# Altium footprint library Heat Sink.PcbLib: 41 footprints (part 2 of 3)
Each footprint in its own frame and in the unit in brackets; x right, y up, seen from the top. Pads: shape width x height; smd on the part's side, far side on the other; paste and mask are expansions set on the pad; w line width, h text height; cw(c..) or ccw(c..) is an arc to the next point about the centre after c.
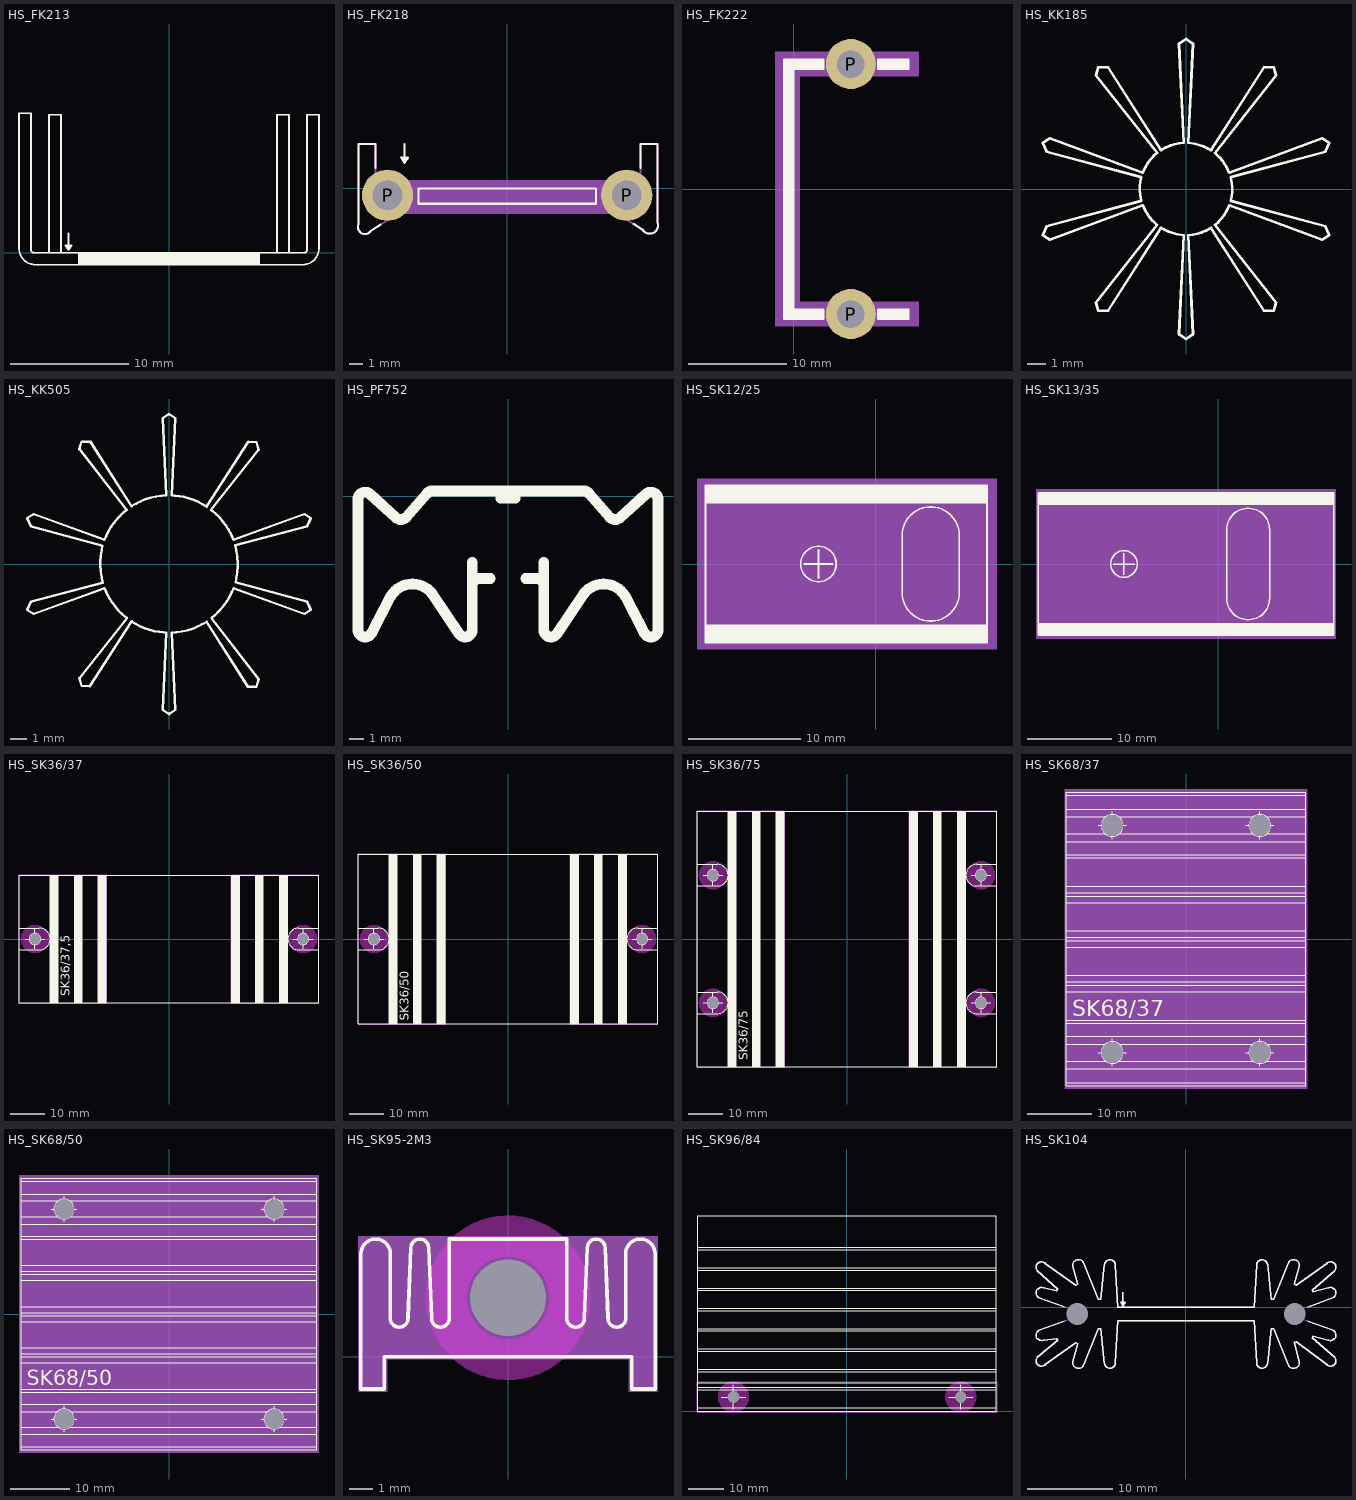
[diagram p1: the footprints below, top view; thin cyan lines are the x and y axes]

## HS_FK213 [mil]
Top Overlay:
  rectangle: -300,-40 300,0
  region: -345,25 -325,25 -335,10
  lines w6: -335,65 -335,25 ; -400,0 -360,0 ; -400,0 -450,0 cw(c-450,10) -460,10 -460,465 -500,465 -500,15 ccw(c-445,15) -445,-40 -300,-40 ; -400,0 -400,460 -360,460 -360,0 ; -360,0 -300,0 ; -335,25 -345,25 -335,10 -325,25 -335,25 ; -300,-40 300,-40 ; -300,-40 -300,0 ; -300,0 300,0 ; 300,-40 445,-40 ccw(c445,15) 500,15 500,460 460,460 460,10 cw(c450,10) 450,0 400,0 ; 300,-40 300,0 ; 300,0 360,0 ; 360,0 400,0 ; 360,0 360,460 400,460 400,0

## HS_FK218 [mil]
pads (2):
  round 150 hole 87: P(-350,-20) P(350,-20)
Top Overlay:
  region: -310,90 -290,90 -300,75
  lines w6: -435,-105 -435,130 -385,130 -385,60 ; -434.67,-105.12 ccw(c-416.15,-113.3) -399.61,-124.99 -370,-105.8 ; -300,130 -300,90 ; 370,-104.38 395,-120 ; 390,60 390,130 440,130 440,-100 cw(c417,-108.2) 395.67,-120.08 ; -300,90 -290,90 -300,75 -310,90 -300,90 ; -260,-45 -260,0 260,0 260,-45 -260,-45
Mechanical 1:
  rectangle: -300,-75 300,25
Mechanical 2:
  lines w6: -435,-105 -435,130 -385,130 -385,50 -385,0 ; -434.67,-105.12 ccw(c-416.15,-113.3) -399.61,-124.99 ; -400,-125 -275,-45 ; 395,-120 275,-45 ; 395.67,-120.08 ccw(c417,-108.2) 440,-100 440,130 390,130 390,45 390,0 ; -385,-45 -385,-65 -345,-45 ; -385,-45 -345,-45 ; -385,-45 -385,0 ; -385,0 -275,0 ; -345,-45 -275,-45 ; -275,-45 -275,0 ; -275,-45 275,-45 ; -275,0 275,0 ; 275,-45 355,-45 ; 275,-45 275,0 ; 275,0 390,0 ; 355,-45 390,-65 390,-45 ; 355,-45 390,-45 ; 390,-45 390,0

## HS_FK222 [mil]
pads (2):
  round 200 hole 110: P(228,-500) P(228,500)
Top Overlay:
  rectangle: -40,480 120,520
  rectangle: 335,480 460,520
  rectangle: 335,-520 460,-480
  rectangle: -40,-520 120,-480
  rectangle: -40,-480 0,480
  lines w6: -40,-520 120,-520 120,-480 0,-480 0,480 120,480 120,520 -40,520 -40,-520 ; 335,-520 460,-520 460,-480 335,-480 335,-520 ; 335,480 335,520 460,520 460,480 335,480
Mechanical 1:
  rectangle: -75,450 500,550
  rectangle: -75,-550 25,550
  rectangle: -75,-550 500,-450
Mechanical 2:
  rectangle: -40,-480 0,480
  rectangle: 120,-520 335,-480
  rectangle: -40,-520 120,-480
  rectangle: 335,-520 460,-480
  rectangle: 335,480 460,520
  rectangle: 120,480 335,520
  rectangle: -40,480 120,520
  lines w6: 120,-520 -40,-520 -40,520 120,520 ; 120,-520 120,-480 ; 120,-520 335,-520 ; 120,-480 0,-480 0,480 120,480 ; 120,-480 335,-480 ; 120,480 120,520 ; 120,480 335,480 ; 120,520 335,520 ; 335,-520 335,-480 ; 335,-520 460,-520 460,-480 335,-480 ; 335,480 460,480 460,520 335,520 ; 335,480 335,520

## HS_KK185 [mil]
Top Overlay:
  lines w6: -98,-26 -302,-81 -310,-100 -295,-110 -94,-35 ; -98,26 -302,81 -310,100 -295,110 -94,35 -88,47 -83,56 -76,65 -70,72 -63,78 ; -97,-25 -99,-13 -100,-3 -100,6 -99,16 -97,25 ; -93,-36 -91,-41 -88,-47 -83,-55 -79,-61 -73,-68 -63,-78 -195,-246 -190,-264 -169,-264 -55,-85 ; -63,79 -195,246 -190,264 -169,264 -55,85 ; -54,-84 -47,-88 -39,-92 -30,-95 -19,-98 -5,-100 -15,-315 0,-325 15,-315 5,-100 14,-99 25,-97 34,-94 44,-90 51,-86 54,-84 169,-264 190,-264 195,-246 63,-78 70,-72 76,-65 83,-56 88,-47 94,-35 295,-110 310,-100 302,-81 98,-26 ; -54,84 -51,86 -44,90 -34,94 -25,97 -14,99 -5,100 -15,315 0,325 15,315 5,100 19,98 30,95 39,92 47,88 54,84 ; 55,85 169,264 190,264 195,246 63,78 73,68 79,61 83,55 88,47 91,41 93,36 ; 94,35 295,110 310,100 302,81 98,26 ; 97,-25 99,-16 100,-6 100,3 99,13 97,25

## HS_KK505 [mil]
Top Overlay:
  lines w6: -340,-110 -332,-91 -159,-45 -160,-40 -162,-31 -164,-17 -165,-2 -165,6 -164,18 -162,32 -160,44 -332,91 -340,110 -325,120 -155,58 -151,67 -146,77 -139,89 -129,103 -120,113 -110,123 -102,130 -215,276 -210,294 -189,294 -90,139 -79,145 -69,150 -57,155 -45,159 -32,162 -17,164 -7,165 -15,350 0,360 15,350 7,165 14,164 24,163 35,161 47,158 58,154 70,149 80,144 90,138 190,293 210,292 215,274 101,130 112,121 122,111 130,101 137,92 143,82 148,73 152,64 155,58 325,120 340,110 332,91 159,45 160,40 162,31 164,17 165,2 165,-6 164,-18 162,-32 160,-44 332,-91 340,-110 325,-120 155,-58 151,-67 146,-77 139,-89 129,-103 120,-113 110,-123 102,-130 215,-276 210,-294 189,-294 90,-139 79,-145 69,-150 57,-155 45,-159 32,-162 17,-164 7,-165 15,-350 0,-360 -15,-350 -7,-165 -14,-164 -24,-163 -35,-161 -47,-158 -58,-154 -70,-149 -80,-144 -90,-138 -190,-293 -210,-292 -215,-274 -101,-130 -112,-121 -122,-111 -130,-101 -137,-92 -143,-82 -148,-73 -152,-64 -155,-58 -325,-120 -340,-110

## HS_PF752 [mil]
Top Overlay:
  lines w30: -385.86,5.84 ccw(c-400,-8.3) -420,-8.3 -420,-373.9 ccw(c-400,-373.9) -383.36,-385 -327.8,-278.9 ; -385.86,5.9 -314.14,-59.1 ; -327.79,-278.95 cw(c-268.03,-315.4) -212.84,-272.35 ; -314.14,-59.14 ccw(c-300,-45) -285.86,-59.14 ; -285.86,-59.1 -226.57,8.2 cw(c-211.55,-5) -211.56,15 211.56,15 cw(c211.56,-5) 226.57,8.21 285.86,-59.1 ; -212.84,-272.3 -136.64,-385 ccw(c-120,-373.9) -100,-373.9 -100,-185 ; -100,-250 cw(c-80,-250) -80,-230 -50,-230 ; -20,10 -20,-5 20,-5 20,10 ; 50,-230 80,-230 cw(c80,-250) 100,-250 ; 100,-185 100,-373.9 ccw(c120,-373.9) 136.64,-384.99 212.84,-272.3 ; 212.84,-272.35 cw(c268.03,-315.4) 327.79,-278.95 ; 285.86,-59.14 ccw(c300,-45) 314.14,-59.14 ; 314.14,-59.1 385.86,5.9 ; 327.8,-278.9 383.36,-385 ccw(c400,-373.9) 420,-373.9 420,-8.3 ccw(c400,-8.3) 385.86,5.84

## HS_SK12/25 [mil]
Top Overlay:
  circle w6: c-200,0 r62
  rectangle: -595,-275 390,-215
  rectangle: -595,215 390,275
  lines w6: -250,0 -150,0 ; -200,-50 -200,50 ; 93,99 93,-100 ccw(c193,-100) 293,-100 293,99 ; 93,100 cw(c193,100) 293,100 ; -595,-215 -595,215 ; -595,-215 390,-215 ; -595,-215 -595,-275 390,-275 390,-215 ; -595,215 390,215 ; -595,215 -595,275 390,275 390,215 ; 390,-215 390,215
Mechanical 1:
  rectangle: -625,-300 425,300

## HS_SK13/35 [mil]
Top Overlay:
  circle w6: c-440,0 r62
  rectangle: -840,275 540,335
  rectangle: -840,-335 540,-275
  lines w6: -840,-330 -840,330 ; -490,0 -390,0 ; -440,-50 -440,50 ; 540,-330 540,330 ; 40,-160 ccw(c140,-160) 240,-160 240,160 ccw(c140,160) 40,160 40,-160
Mechanical 1:
  rectangle: -850,-350 550,350

## HS_SK36/37 [mil]
pads (2):
  round 0 hole 130 unplated: MH(-1555,0) MH(1555,0)
Top Overlay:
  circle w6: c1555,0 r65
  circle w6: c-1555,0 r65
  rectangle: 1285,-739.97 1375,740
  rectangle: 1005,-739.97 1095,740
  rectangle: 730,-739.97 820,740
  rectangle: -820,-739.97 -730,740
  rectangle: -1095,-739.97 -1005,740
  rectangle: -1375,-739.97 -1285,740
  lines w6: -1665,0 -1440,0 ; -1555,-115 -1555,115 ; 1440,0 1665,0 ; 1555,-115 1555,115 ; -1735,-125 -1505,-125 ccw(c-1505,0) -1505,125 -1735,125 ; -1735,-125 -1735,125 ; -1735,-125 -1735,-739.97 -1375,-739.97 ; -1735,125 -1735,740 -1375,740 ; -1375,-739.97 -1375,740 ; -1375,-739.97 -1285,-739.97 ; -1375,740 -1285,740 ; -1285,-739.97 -1285,740 ; -1285,-739.97 -1095,-739.97 ; -1285,740 -1095,740 ; -1095,-739.97 -1095,740 ; -1095,-739.97 -1005,-739.97 ; -1095,740 -1005,740 ; -1005,-739.97 -1005,740 ; -1005,-739.97 -820,-739.97 ; -1005,740 -820,740 ; -820,-739.97 -820,740 ; -820,-739.97 -730,-739.97 ; -820,740 -730,740 ; -730,-739.97 -730,740 ; -730,-739.97 730,-739.97 ; -730,740 730,740 ; 730,-739.97 730,740 ; 730,-739.97 820,-739.97 ; 730,740 820,740 ; 820,-739.97 820,740 ; 820,-739.97 1005,-739.97 ; 820,740 1005,740 ; 1005,-739.97 1005,740 ; 1005,-739.97 1095,-739.97 ; 1005,740 1095,740 ; 1095,-739.97 1095,740 ; 1095,-739.97 1285,-739.97 ; 1095,740 1285,740 ; 1285,-739.97 1285,740 ; 1285,-739.97 1375,-739.97 ; 1285,740 1375,740 ; 1375,-739.97 1375,740 ; 1375,-739.97 1735,-739.97 1735,-125 ; 1375,740 1735,740 1735,125 ; 1735,-125 1505,-125 cw(c1505,0) 1505,125 1735,125 ; 1735,-125 1735,125
  text "SK36/37,5" at -1150,-664.97 h100
Keep-Out Layer:
  circle w100: c1555,0 r115
  circle w100: c-1555,0 r115
Mechanical 2:
  lines w5: -1740,-744.97 -725,-744.97 -725,745 -1740,745 -1740,-744.97 ; 725,-744.97 1740,-744.97 1740,745 725,745 725,-744.97

## HS_SK36/50 [mil]
pads (2):
  round 0 hole 130 unplated: MH(-1555,0) MH(1555,0)
Top Overlay:
  circle w6: c1555,0 r65
  circle w6: c-1555,0 r65
  rectangle: 1285,-985 1375,985
  rectangle: 1005,-985 1095,985
  rectangle: 730,-985 820,985
  rectangle: -820,-985 -730,985
  rectangle: -1095,-985 -1005,985
  rectangle: -1375,-985 -1285,985
  lines w6: -1665,0 -1440,0 ; -1555,-115 -1555,115 ; 1440,0 1665,0 ; 1555,-115 1555,115 ; -1735,-125 -1505,-125 ccw(c-1505,0) -1505,125 -1735,125 ; -1735,-125 -1735,125 ; -1735,-125 -1735,-985 -1375,-985 ; -1735,125 -1735,985 -1375,985 ; -1375,-985 -1375,985 ; -1375,-985 -1285,-985 ; -1375,985 -1285,985 ; -1285,-985 -1285,985 ; -1285,-985 -1095,-985 ; -1285,985 -1095,985 ; -1095,-985 -1095,985 ; -1095,-985 -1005,-985 ; -1095,985 -1005,985 ; -1005,-985 -1005,985 ; -1005,-985 -820,-985 ; -1005,985 -820,985 ; -820,-985 -820,985 ; -820,-985 -730,-985 ; -820,985 -730,985 ; -730,-985 -730,985 ; -730,-985 730,-985 ; -730,985 730,985 ; 730,-985 730,985 ; 730,-985 820,-985 ; 730,985 820,985 ; 820,-985 820,985 ; 820,-985 1005,-985 ; 820,985 1005,985 ; 1005,-985 1005,985 ; 1005,-985 1095,-985 ; 1005,985 1095,985 ; 1095,-985 1095,985 ; 1095,-985 1285,-985 ; 1095,985 1285,985 ; 1285,-985 1285,985 ; 1285,-985 1375,-985 ; 1285,985 1375,985 ; 1375,-985 1375,985 ; 1375,-985 1735,-985 1735,-125 ; 1375,985 1735,985 1735,125 ; 1735,-125 1505,-125 cw(c1505,0) 1505,125 1735,125 ; 1735,-125 1735,125
  text "SK36/50" at -1150,-950 h100
Keep-Out Layer:
  circle w100: c1555,0 r115
  circle w100: c-1555,0 r115
Mechanical 2:
  lines w5: -1740,-990 -725,-990 -725,990 -1740,990 -1740,-990 ; 725,-990 725,990 1740,990 1740,-990 725,-990

## HS_SK36/75 [mil]
pads (4):
  round 0 hole 130 unplated: MH(-1555,-740) MH(-1555,740) MH(1555,-740) MH(1555,740)
Top Overlay:
  circle w6: c1555,-740 r65
  circle w6: c-1555,-740 r65
  circle w6: c1555,740 r65
  circle w6: c-1555,740 r65
  rectangle: 1285,-1480 1375,1480
  rectangle: 1005,-1480 1095,1480
  rectangle: 730,-1480 820,1480
  rectangle: -820,-1480 -730,1480
  rectangle: -1095,-1480 -1005,1480
  rectangle: -1375,-1480 -1285,1480
  lines w6: -1665,-740 -1440,-740 ; -1665,740 -1440,740 ; -1555,-855 -1555,-625 ; -1555,625 -1555,855 ; 1440,-740 1665,-740 ; 1440,740 1665,740 ; 1555,-855 1555,-625 ; 1555,625 1555,855 ; -1735,-865 -1505,-865 ccw(c-1505,-740) -1505,-615 -1735,-615 ; -1735,-865 -1735,-615 ; -1735,-865 -1735,-1480 -1375,-1480 ; -1735,-615 -1735,615 ; -1735,615 -1505,615 ccw(c-1505,740) -1505,865 -1735,865 ; -1735,615 -1735,865 ; -1735,865 -1735,1480 -1375,1480 ; -1375,-1480 -1375,1480 ; -1375,-1480 -1285,-1480 ; -1375,1480 -1285,1480 ; -1285,-1480 -1285,1480 ; -1285,-1480 -1095,-1480 ; -1285,1480 -1095,1480 ; -1095,-1480 -1095,1480 ; -1095,-1480 -1005,-1480 ; -1095,1480 -1005,1480 ; -1005,-1480 -1005,1480 ; -1005,-1480 -820,-1480 ; -1005,1480 -820,1480 ; -820,-1480 -820,1480 ; -820,-1480 -730,-1480 ; -820,1480 -730,1480 ; -730,-1480 -730,1480 ; -730,-1480 730,-1480 ; -730,1480 730,1480 ; 730,-1480 730,1480 ; 730,-1480 820,-1480 ; 730,1480 820,1480 ; 820,-1480 820,1480 ; 820,-1480 1005,-1480 ; 820,1480 1005,1480 ; 1005,-1480 1005,1480 ; 1005,-1480 1095,-1480 ; 1005,1480 1095,1480 ; 1095,-1480 1095,1480 ; 1095,-1480 1285,-1480 ; 1095,1480 1285,1480 ; 1285,-1480 1285,1480 ; 1285,-1480 1375,-1480 ; 1285,1480 1375,1480 ; 1375,-1480 1375,1480 ; 1375,-1480 1735,-1480 1735,-865 ; 1375,1480 1735,1480 1735,865 ; 1735,-865 1505,-865 cw(c1505,-740) 1505,-615 1735,-615 ; 1735,-865 1735,-615 ; 1735,-615 1735,615 ; 1735,615 1505,615 cw(c1505,740) 1505,865 1735,865 ; 1735,615 1735,865
  text "SK36/75" at -1150,-1405 h100
Keep-Out Layer:
  circle w100: c-1555,-740 r115
  circle w100: c-1555,740 r115
  circle w100: c1555,740 r115
  circle w100: c1555,-740 r115
Mechanical 2:
  lines w5: -1740,-5 -1740,5 ; -725,-5 -725,5 ; 725,-5 725,5 ; 1740,-5 1740,5 ; -1740,5 -1740,-1485 -725,-1485 -725,5 ; -1740,5 -1740,1485 -725,1485 -725,5 ; 725,5 725,-1485 1740,-1485 1740,5 ; 725,5 725,1485 1740,1485 1740,5

## HS_SK68/37 [mil]
pads (4):
  round 0 hole 130 unplated: MH(-455,-700) MH(-455,700) MH(455,-700) MH(455,700)
Top Overlay:
  circle w6: c455,700 r67
  circle w6: c455,-700 r67
  circle w6: c-455,-700 r67
  circle w6: c-455,700 r67
  lines w2: -740,-885 740,-885 ; -740,-800 740,-800 ; -740,-600 740,-600 ; -740,-520 740,-520 ; -740,-285 740,-285 ; -740,-265 740,-265 ; -740,-10 740,-10 ; -740,10 740,10 ; -740,265 740,265 ; -740,285 740,285 ; -740,520 740,520 ; -740,600 740,600 ; -740,800 740,800 ; -740,885 740,885 ; -540,-700 -370,-700 ; -540,700 -370,700 ; -455,-785 -455,-615 ; -455,615 -455,785 ; 370,-700 540,-700 ; 370,700 540,700 ; 455,-785 455,-615 ; 455,615 455,785
  lines w6: -740,-755 740,-755 ; -740,-755 -740,-800 -740,-885 -740,-905 740,-905 740,-885 740,-800 740,-755 ; -740,-755 -740,-650 ; -740,-650 740,-650 ; -740,-650 -740,-600 -740,-520 -740,-500 ; -740,-500 740,-500 ; -740,-500 -740,-325 ; -740,-325 740,-325 ; -740,-325 -740,-285 -740,-265 -740,-225 ; -740,-225 740,-225 ; -740,-225 -740,-50 ; -740,-50 740,-50 ; -740,-50 -740,-10 -740,10 -740,50 ; -740,50 740,50 ; -740,50 -740,225 ; -740,225 -740,265 -740,285 -740,325 ; -740,225 740,225 ; -740,325 740,325 ; -740,325 -740,500 ; -740,500 -740,520 -740,600 -740,650 ; -740,500 740,500 ; -740,650 -740,755 ; -740,650 740,650 ; -740,755 740,755 ; -740,755 -740,800 -740,885 -740,905 740,905 740,885 740,800 740,755 ; 740,-755 740,-650 ; 740,-650 740,-600 740,-520 740,-500 ; 740,-500 740,-325 ; 740,-325 740,-285 740,-265 740,-225 ; 740,-225 740,-50 ; 740,-50 740,-10 740,10 740,50 ; 740,50 740,225 ; 740,225 740,265 740,285 740,325 ; 740,325 740,500 ; 740,500 740,520 740,600 740,650 ; 740,650 740,755
  text "SK68/37" at -700,-475 h100
Mechanical 1:
  rectangle: -750,-925 750,925
Mechanical 2:
  circle w0.31: c455,700 r150
  circle w0.31: c455,-700 r150
  circle w0.31: c-455,-700 r150
  circle w0.31: c-455,700 r150

## HS_SK68/50 [mil]
pads (4):
  round 0 hole 130 unplated: MH(-700,-700) MH(-700,700) MH(700,-700) MH(700,700)
Top Overlay:
  circle w2: c700,700 r67
  circle w2: c700,-700 r67
  circle w2: c-700,-700 r67
  circle w2: c-700,700 r67
  lines w2: -985,-885 985,-885 ; -985,-800 985,-800 ; -985,-600 985,-600 ; -985,-520 985,-520 ; -985,-285 985,-285 ; -985,-265 985,-265 ; -985,-10 985,-10 ; -985,10 985,10 ; -985,265 985,265 ; -985,285 985,285 ; -985,520 985,520 ; -985,600 985,600 ; -985,800 985,800 ; -985,885 985,885 ; -785,-700 -615,-700 ; -785,700 -615,700 ; -700,-785 -700,-615 ; -700,615 -700,785 ; 615,-700 785,-700 ; 615,700 785,700 ; 700,-785 700,-615 ; 700,615 700,785
  lines w6: -985,-755 985,-755 ; -985,-755 -985,-800 -985,-885 -985,-905 985,-905 985,-885 985,-800 985,-755 ; -985,-755 -985,-650 ; -985,-650 985,-650 ; -985,-650 -985,-600 -985,-520 -985,-500 ; -985,-500 985,-500 ; -985,-500 -985,-325 ; -985,-325 985,-325 ; -985,-325 -985,-285 -985,-265 -985,-225 ; -985,-225 985,-225 ; -985,-225 -985,-50 ; -985,-50 985,-50 ; -985,-50 -985,-10 -985,10 -985,50 ; -985,50 985,50 ; -985,50 -985,225 ; -985,225 985,225 ; -985,225 -985,265 -985,285 -985,325 ; -985,325 985,325 ; -985,325 -985,500 ; -985,500 985,500 ; -985,500 -985,520 -985,600 -985,650 ; -985,650 985,650 ; -985,650 -985,755 ; -985,755 985,755 ; -985,755 -985,800 -985,885 -985,905 985,905 985,885 985,800 985,755 ; 985,-755 985,-650 ; 985,-650 985,-600 985,-520 985,-500 ; 985,-500 985,-325 ; 985,-325 985,-285 985,-265 985,-225 ; 985,-225 985,-50 ; 985,-50 985,-10 985,10 985,50 ; 985,50 985,225 ; 985,225 985,265 985,285 985,325 ; 985,325 985,500 ; 985,500 985,520 985,600 985,650 ; 985,650 985,755
  text "SK68/50" at -950,-475 h100
Mechanical 1:
  rectangle: -1000,-925 1000,925
Mechanical 2:
  circle w0.31: c700,700 r150
  circle w0.31: c700,-700 r150
  circle w0.31: c-700,-700 r150
  circle w0.31: c-700,700 r150

## HS_SK95-2M3 [mil]
pads (1):
  round 0 hole 130 unplated: MH(0,100)
Top Overlay:
  lines w6: -250,-54.97 -210,-54.97 -210,0 210,0 210,-54.97 250,-54.97 250,175 ccw(c225,175) 200,175 200,65 cw(c185,65) 170,65 165,185 ccw(c150,185) 135,185 130,65 cw(c115,65) 100,65 100,200 -100,200 -100,65 cw(c-115,65) -130,65 -135,185 ccw(c-150,185) -165,185 -170,65 cw(c-185,65) -200,65 -200,175 ccw(c-225,175) -250,175 -250,-54.97
Keep-Out Layer:
  circle w70: c0,100 r105
Mechanical 1:
  rectangle: -215,-5 215,205
  rectangle: 205,-59.97 255,205
  rectangle: -255,-59.97 -205,205

## HS_SK96/84 [mil]
pads (2):
  round 0 hole 130 unplated: MH(-1256,157) MH(1263,157)
Top Overlay:
  lines w6: -1391,157 -1121,157 ; -1256,22 -1256,292 ; 1128,157 1398,157 ; 1263,22 1263,292 ; -1650,240 -1650,265 ; -1650,240 -1650,40 1657,40 1657,240 ; -1650,240 1657,240 ; -1650,265 -1650,440 ; -1650,265 1657,265 ; -1650,440 -1650,465 ; -1650,440 1657,440 ; -1650,465 -1650,665 ; -1650,465 1657,465 ; -1650,665 -1650,690 ; -1650,665 1657,665 ; -1650,690 -1650,890 ; -1650,690 1657,690 ; -1650,890 -1650,915 ; -1650,890 1657,890 ; -1650,915 -1650,1115 ; -1650,915 1657,915 ; -1650,1115 -1650,1140 ; -1650,1115 1657,1115 ; -1650,1140 -1650,1340 ; -1650,1140 1657,1140 ; -1650,1340 -1650,1365 ; -1650,1340 1657,1340 ; -1650,1365 -1650,1565 ; -1650,1365 1657,1365 ; -1650,1565 -1650,1590 ; -1650,1565 1657,1565 ; -1650,1590 -1650,1790 ; -1650,1590 1657,1590 ; -1650,1790 -1650,1815 ; -1650,1790 1657,1790 ; -1650,1815 -1650,2165 1657,2165 1657,1815 ; -1650,1815 1657,1815 ; 1657,240 1657,265 ; 1657,265 1657,440 ; 1657,265 1657,315 ; 1657,315 -1650,315 -1650,0 1657,0 1657,315 ; 1657,440 1657,465 ; 1657,465 1657,665 ; 1657,665 1657,690 ; 1657,690 1657,890 ; 1657,890 1657,915 ; 1657,915 1657,1115 ; 1657,1115 1657,1140 ; 1657,1140 1657,1340 ; 1657,1340 1657,1365 ; 1657,1365 1657,1565 ; 1657,1565 1657,1590 ; 1657,1590 1657,1790 ; 1657,1790 1657,1815
Keep-Out Layer:
  circle w106: c-1256,157 r120
  circle w106: c1263,157 r120
Mechanical 2:
  lines w5: -1655,-10 1665,-10 ; -1660,-10 -1660,325 ; -1660,-10 1665,-10 ; -1660,-10 -1660,325 ; -1660,-10 1665,-10 ; -1660,-10 -1660,325 ; -1660,325 1665,325 ; -1660,325 1665,325 ; -1660,325 1665,325 ; 1665,-10 1665,325 ; 1665,-10 1665,325 ; 1665,-10 1665,325

## HS_SK104 [mil]
pads (2):
  round 0 hole 100 unplated: MH(-500,-30) MH(500,-30)
Top Overlay:
  lines w6: -677,-105 -560.37,-62.33 ; -677,45 -560.37,2.33 ; -675.38,-104.16 ccw(c-665,-126.99) -655,-149.99 -596,-143 -591,-150 -685,-230 ccw(c-665,-245) -645,-260 ; -675.38,44.17 cw(c-665,67) -655,90 -596,78 -591,85 -685,170 cw(c-665,185) -645,200 ; -649,-264 -507,-162 -499,-166 -522,-250 ; -649,204 -507,102 -499,106 -522,190 ; -521.56,-248.57 ccw(c-495,-253) -470,-263 -404,-97 -393,-97 -375,-257 ; -521.56,188.58 cw(c-495,193.01) -470,203.01 -404,37 -393,37 -375,197 ; -375,-255 ccw(c-350,-255) -325,-255 -315,-60 315,-60 325,-255 ccw(c350,-255) 375,-255 ; -375,195 cw(c-350,195) -325,195 -315,0 315,0 325,195 cw(c350,195) 375,195 ; -290,70 -290,10 ; 375,-256 393,-97 404,-97 470,-263 ccw(c495,-253) 521.55,-248.57 ; 375,198 393,37 404,37 470,203 cw(c495,193.01) 521.55,188.58 ; 522,-250 499,-161 507,-157 649,-264 ; 522,190 499,106 507,102 649,204 ; 560.37,-62.33 677,-105 ; 560.42,2.19 676,45 ; 645,-260 ccw(c665,-245) 685,-230 581,-140 586,-133 655,-150 ccw(c665,-126.99) 675.38,-104.16 ; 645,200 cw(c665,185) 685,170 581,80 586,73 655,90 cw(c665,67) 675.38,44.17 ; -295,25 -300,25 -290,5 ; -295,25 -285,25 ; -295,25 -290,10 ; -290,5 -280,25 -285,25 ; -290,5 -285,25 ; -290,5 -290,10
Mechanical 2:
  lines w6: -677,-105 -595,-75 -535,-55 ccw(c-500,-30) -535,-5 -595,15 -677,45 ; -675.38,-104.16 ccw(c-665,-126.99) -655,-149.99 -596,-143 -591,-150 -685,-230 ccw(c-665,-245) -645,-260 ; -675.38,44.17 cw(c-665,67) -655,90 -596,78 -591,85 -685,170 cw(c-665,185) -645,200 ; -649,-264 -507,-162 -499,-166 -522,-250 ; -649,204 -507,102 -499,106 -522,190 ; -521.56,-248.57 ccw(c-495,-253) -470,-263 -404,-97 -393,-97 -375,-257 ; -521.56,188.58 cw(c-495,193.01) -470,203.01 -404,37 -393,37 -375,197 ; -375,-255 ccw(c-350,-255) -325,-255 -315,-60 315,-60 325,-255 ccw(c350,-255) 375,-255 ; -375,195 cw(c-350,195) -325,195 -315,0 315,0 325,195 cw(c350,195) 375,195 ; -290,70 -290,10 ; 375,-256 393,-97 404,-97 470,-263 ccw(c495,-253) 521.55,-248.57 ; 375,198 393,37 404,37 470,203 cw(c495,193.01) 521.55,188.58 ; 522,-250 499,-161 507,-157 649,-264 ; 522,190 499,106 507,102 649,204 ; 535,-55 595,-75 677,-105 ; 535.78,-53.85 cw(c500,-29.99) 535,-5 595,15 676,45 ; 645,-260 ccw(c665,-245) 685,-230 581,-140 586,-133 655,-150 ccw(c665,-126.99) 675.38,-104.16 ; 645,200 cw(c665,185) 685,170 581,80 586,73 655,90 cw(c665,67) 675.38,44.17 ; -295,25 -290,10 ; -295,25 -285,25 ; -295,25 -300,25 -290,5 ; -290,5 -290,10 ; -290,5 -285,25 ; -290,5 -280,25 -285,25